# Altium footprint library FTSH-105-05-F-DV.PcbLib: 1 footprints
Each footprint in its own frame and in the unit in brackets; x right, y up, seen from the top. Pads: shape width x height; smd on the part's side, far side on the other; paste and mask are expansions set on the pad; w line width, h text height; cw(c..) or ccw(c..) is an arc to the next point about the centre after c.
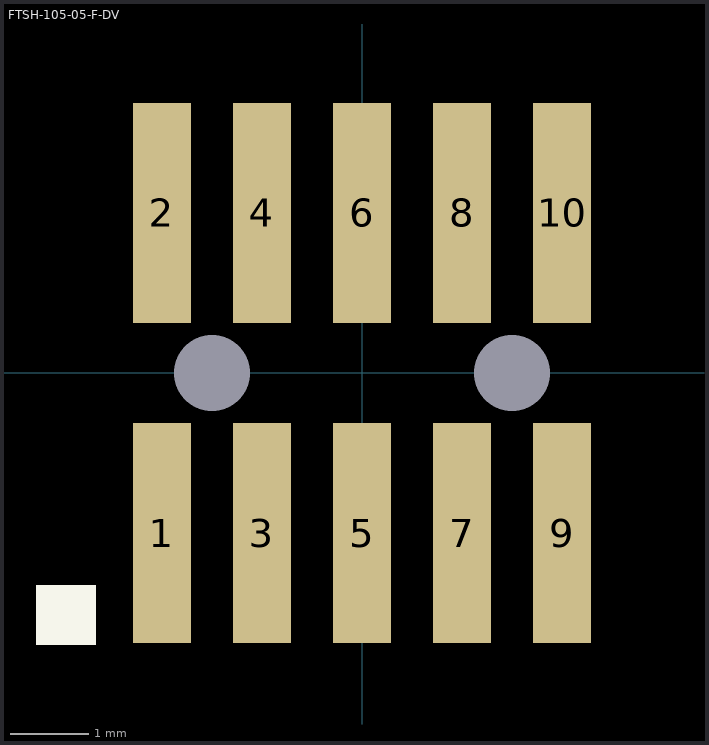
[diagram p0: the footprint, top view; thin cyan lines are the x and y axes]

## FTSH-105-05-F-DV [mil]
height 62.99
pads (12):
  rect 29x110 smd: 1(-100,-80) 2(-100,80) 3(-50,-80) 4(-50,80) 5(0,-80) 6(0,80) 7(50,-80) 8(50,80) 9(100,-80) 10(100,80)
  rect 0x0 hole 38 unplated: M(-75,0) M(75,0)
Top Overlay:
  rectangle: -163,-136 -133,-106
3D body "Samtec-FTSH-105-05-F-DV-A.step": height 285.48, standoff -33.52, extent -125,-115 125,115